# EAGLE library part BQ21040DBVR (library BQ21040DBVR)
0.8A Single Input Single-Cell Li-Ion and Li-Pol Battery Charger Source: Datasheet <http://www.ti.com/lit/gpn/bq21040>
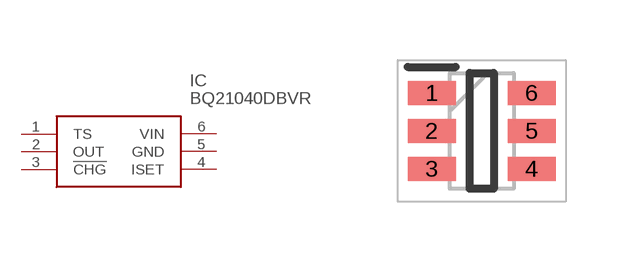
[diagram p0: symbol with the pads of SOT95P280X145-6N; footprint SOT95P280X145-6N]

Designator prefix IC

## BQ21040DBVR (Description: 0.8A Single Input Single-Cell Li-Ion and Li-Pol Battery Charger; Height: 1.45mm; Manufacturer_Name: Texas Instruments; Manufacturer_Part_Number: BQ21040DBVR; Mouser_Part_Number: 595-BQ21040DBVR; Mouser_Price-Stock: https://www.mouser.com/Search/Refine.aspx?Keyword=595-BQ21040DBVR)  [SOT95P280X145-6N]
1  TS  in
2  OUT  out
3  !CHG  out
4  ISET  in
5  GND  pwr
6  VIN  in

## Footprint SOT95P280X145-6N (pad centres in mm)
DBV (R-PDSO-G6)
smd 1.2 x 0.6: 1 -1.25,0.95; 2 -1.25,0; 3 -1.25,-0.95; 4 1.25,-0.95; 5 1.25,0; 6 1.25,0.95